# EAGLE library part SPARKFUN-BOARDS_ARDUINO_UNO_R3 (library plant)
Arduino R3 Footprint with SPI header Arduino Uno R3 Compatible Footprint. Matches PCB size of the original board. SparkFun Products: SAMD21 Dev Breakout <https://www.sparkfun.com/products/13672> RedBoard <https://www.sparkfun.com/products/12757> R3 Stackable Headers <https://www.sparkfun.com/products/11417>
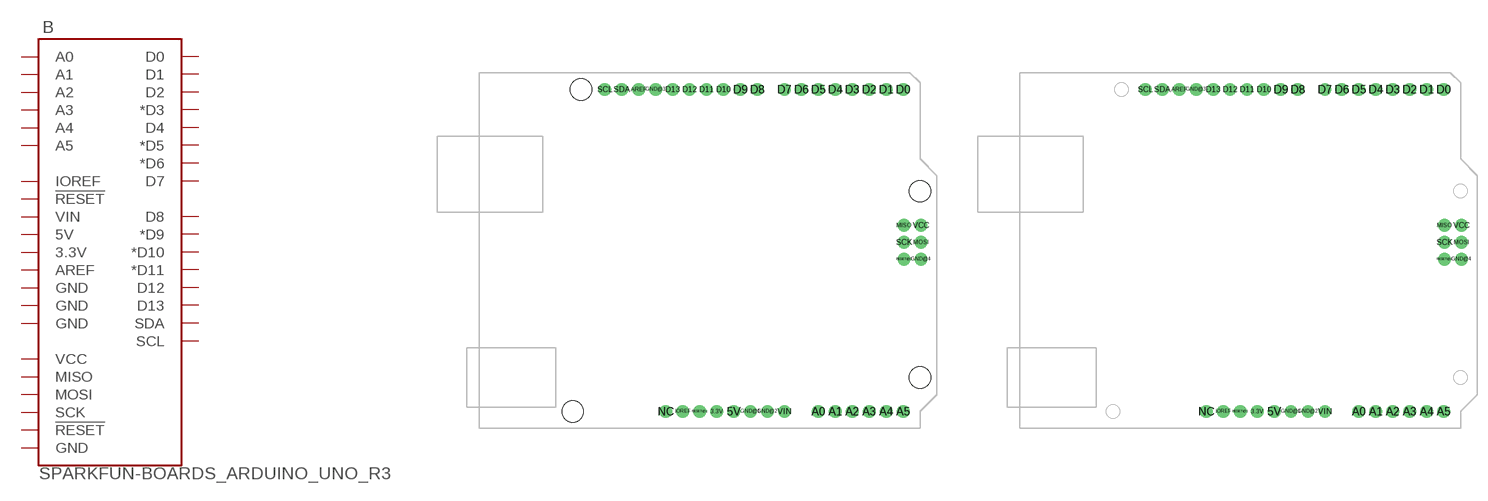
[diagram p1: symbol with the pads of SPARKFUN-BOARDS_ARDUINO_R3; footprints SPARKFUN-BOARDS_ARDUINO_R3, SPARKFUN-BOARDS_ARDUINO_R3_NO_HOLES]

Designator prefix B

## SPARKFUN-BOARDS_ARDUINO_UNO_R3  [SPARKFUN-BOARDS_ARDUINO_R3]
3.3V  3.3V
5V  5V
A0  A0
A1  A1
A2  A2
A3  A3
A4  A4
A5  A5
AREF  AREF
D0  D0
D1  D1
D2  D2
D3  *D3
D4  D4
D5  *D5
D6  *D6
D7  D7
D8  D8
D9  *D9
D10  *D10
D11  *D11
D12  D12
D13  D13
GND@1  GND
GND@2  GND
GND@3  GND
GND@4  GND
IOREF  IOREF
MISO  MISO
MOSI  MOSI
RESET@1  !RESET!
RESET@2  !RESET!
SCK  SCK
SCL  SCL
SDA  SDA
VCC  VCC
VIN  VIN

## SPARKFUN-BOARDS_ARDUINO_UNO_R3NO_HOLES  [SPARKFUN-BOARDS_ARDUINO_R3_NO_HOLES]
Pads as for SPARKFUN-BOARDS_ARDUINO_R3

## Footprint SPARKFUN-BOARDS_ARDUINO_R3 (pad centres in mm)
Arduino Uno R3 Footprint Includes mounting holes, and holes for ICSP header Specifications: Pin count: 38 Area:2.7x2.1in Datasheet referenced for footprint: Example device(s): Arduino Uno R3
drill 1.016 pad 1.93: 3.3V 2.54,-24.13; 5V 5.08,-24.13; A0 17.78,-24.13; A1 20.32,-24.13; A2 22.86,-24.13; A3 25.4,-24.13; A4 27.94,-24.13; A5 30.48,-24.13; AREF -9.144,24.13; D0 30.48,24.13; D1 27.94,24.13; D2 25.4,24.13; D3 22.86,24.13; D4 20.32,24.13; D5 17.78,24.13; D6 15.24,24.13; D7 12.7,24.13; D8 8.636,24.13; D9 6.096,24.13; D10 3.556,24.13; D11 1.016,24.13; D12 -1.524,24.13; D13 -4.064,24.13; GND@1 7.62,-24.13; GND@2 10.16,-24.13; GND@3 -6.604,24.13; GND@4 33.16,-1.32; IOREF -2.54,-24.13; MISO 30.62,3.76; MOSI 33.16,1.22; NC -5.08,-24.13; RESET@1 0,-24.13; RESET@2 30.62,-1.32; SCK 30.62,1.22; SCL -14.224,24.13; SDA -11.684,24.13; VCC 33.16,3.76; VIN 12.7,-24.13
hole 3.175 at -17.78,24.13
hole 3.175 at 33.02,8.89
hole 3.175 at 33.02,-19.05
hole 3.175 at -19.05,-24.13

## Footprint SPARKFUN-BOARDS_ARDUINO_R3_NO_HOLES (pad centres in mm)
Arduino Uno R3 Footprint Includes holes for ICSP header Specifications: Pin count: 38 Area:2.7x2.1in Example device(s): Arduino Uno R3
drill 1.016 pad 1.93: 3.3V 1.27,-24.13; 5V 3.81,-24.13; A0 16.51,-24.13; A1 19.05,-24.13; A2 21.59,-24.13; A3 24.13,-24.13; A4 26.67,-24.13; A5 29.21,-24.13; AREF -10.414,24.13; D0 29.21,24.13; D1 26.67,24.13; D2 24.13,24.13; D3 21.59,24.13; D4 19.05,24.13; D5 16.51,24.13; D6 13.97,24.13; D7 11.43,24.13; D8 7.366,24.13; D9 4.826,24.13; D10 2.286,24.13; D11 -0.254,24.13; D12 -2.794,24.13; D13 -5.334,24.13; GND@1 6.35,-24.13; GND@2 8.89,-24.13; GND@3 -7.874,24.13; GND@4 31.89,-1.32; IOREF -3.81,-24.13; MISO 29.35,3.76; MOSI 31.89,1.22; NC -6.35,-24.13; RESET@1 -1.27,-24.13; RESET@2 29.35,-1.32; SCK 29.35,1.22; SCL -15.494,24.13; SDA -12.954,24.13; VCC 31.89,3.76; VIN 11.43,-24.13